# EAGLE library part CD4013B_D_14 (library CD4013B)
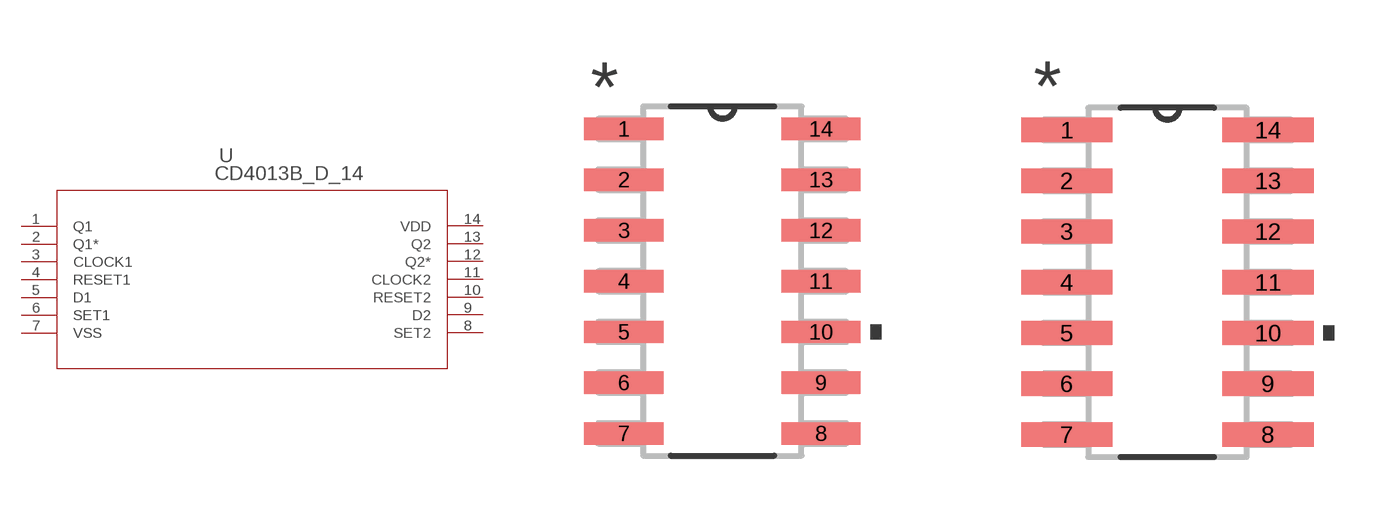
[diagram p0: symbol with the pads of D14; footprints D14, D14-M]

Designator prefix U

## CD4013B_D_14  [D14]
1  Q1  pas
2  Q1*  pas
3  CLOCK1  pas
4  RESET1  pas
5  D1  pas
6  SET1  pas
7  VSS  pwr
8  SET2  pas
9  D2  pas
10  RESET2  pas
11  CLOCK2  pas
12  Q2*  pas
13  Q2  pas
14  VDD  pwr

## CD4013B_D_14D14-M  [D14-M]
Pads as for D14

## CD4013B_D_14D14-L  [D14-L]
Pads as for D14

## Footprint D14 (pad centres in mm)
smd 1.981 x 0.559: 1 -2.464,3.81; 2 -2.464,2.54; 3 -2.464,1.27; 4 -2.464,0; 5 -2.464,-1.27; 6 -2.464,-2.54; 7 -2.464,-3.81; 8 2.464,-3.81; 9 2.464,-2.54; 10 2.464,-1.27; 11 2.464,0; 12 2.464,1.27; 13 2.464,2.54; 14 2.464,3.81

## Footprint D14-M (pad centres in mm)
smd 2.286 x 0.61: 1 -2.515,3.81; 2 -2.515,2.54; 3 -2.515,1.27; 4 -2.515,0; 5 -2.515,-1.27; 6 -2.515,-2.54; 7 -2.515,-3.81; 8 2.515,-3.81; 9 2.515,-2.54; 10 2.515,-1.27; 11 2.515,0; 12 2.515,1.27; 13 2.515,2.54; 14 2.515,3.81

## Footprint D14-L (pad centres in mm)
smd 1.676 x 0.508: 1 -2.413,3.81; 2 -2.413,2.54; 3 -2.413,1.27; 4 -2.413,0; 5 -2.413,-1.27; 6 -2.413,-2.54; 7 -2.413,-3.81; 8 2.413,-3.81; 9 2.413,-2.54; 10 2.413,-1.27; 11 2.413,0; 12 2.413,1.27; 13 2.413,2.54; 14 2.413,3.81